# Altium schematic symbol library JMP1x3.Schlib: 1 symbol
Pins are listed as number, name and electrical type; pins without a type are passive.

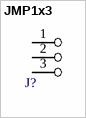
[diagram p0: symbol JMP1x3]

## JMP1x3
designator J?  (value not drawn)
Jumper, 1x3; 4 Manufacturer: AMP/Tyco or equiv.; 5 Manufacturer P/N: 640452-3 or equiv.; 2 Description: SPDT; 3 Footprint: 3pgen; 6 P/N: 219-512; Cost: $0.31; ComponentLink1Description: Manufacturer Link; ComponentLink2URL: http://documents.tycoelectronics.com/commerce/DocumentDelivery/DDEController?Action=srchrtrv&DocNm=640452&DocType=CD&DocLang=EN; ComponentLink1URL: http://www.tycoelectronics.com/; ComponentLink3URL: http://search.digikey.com/scripts/DkSearch/dksus.dll?Detail?name=A19330-ND; ComponentLink3Description: Supplier Link; ComponentLink2Description: Datasheet; 1 Type: Jumper, 1x3
footprint 3pgen
pins: 1, 2, 3